# Altium footprint library GOSTAmplifier.PcbLib: 7 footprints
Each footprint in its own frame and in the unit in brackets; x right, y up, seen from the top. Pads: shape width x height; smd on the part's side, far side on the other; paste and mask are expansions set on the pad; w line width, h text height; cw(c..) or ccw(c..) is an arc to the next point about the centre after c.
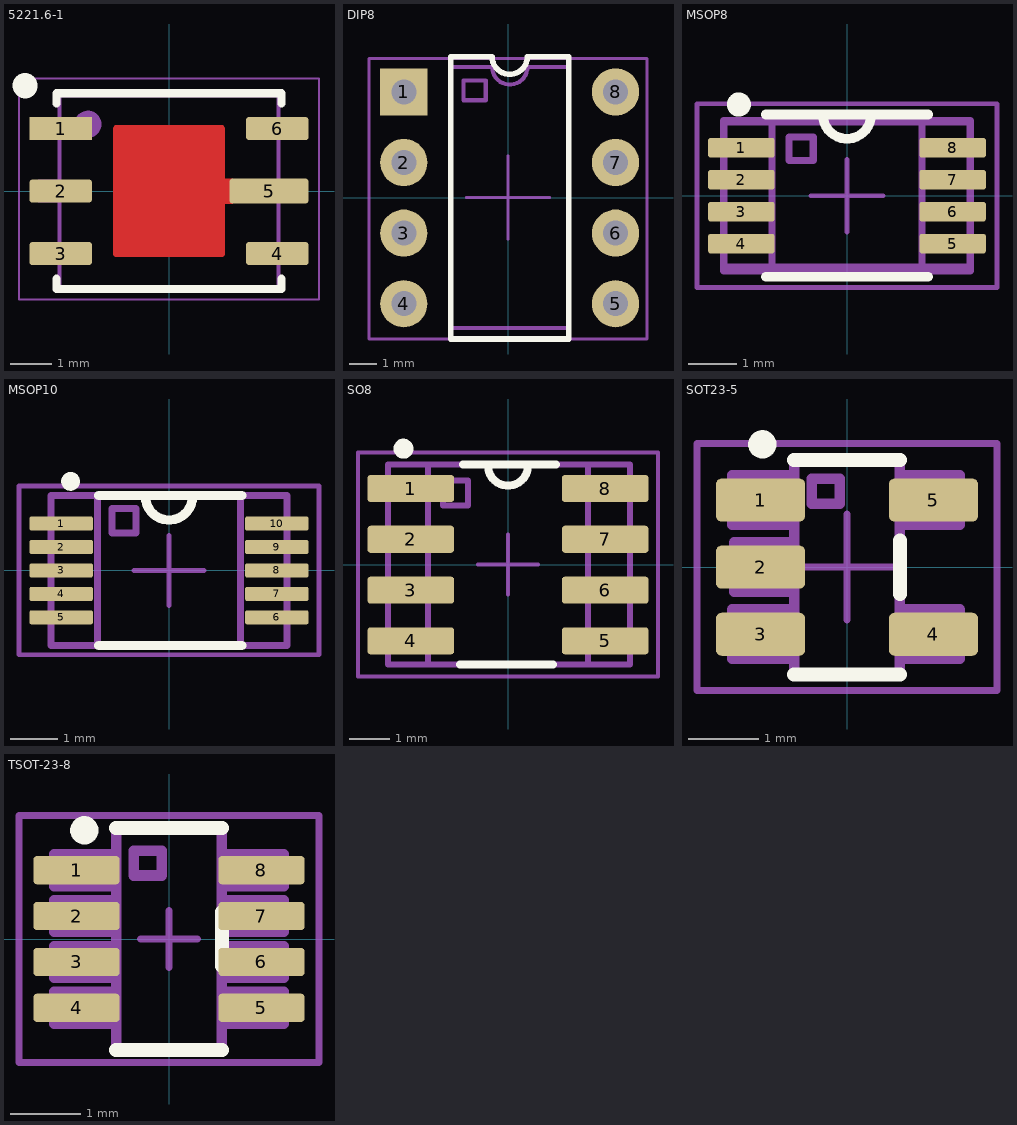
[diagram p0: the footprints below, top view; thin cyan lines are the x and y axes]

## 5221.6-1 [mm] "5221.6-1, 6-Leads, Body 4,6x5,25mm, Pitch 1,50mm, IPC Medium Density"
height 2
pads (6):
  rect 1.5x0.55 smd paste-0.025 mask+0.1: 1(-2.6,1.5)
  rrect25% 1.5x0.55 smd paste-0.025 mask+0.1: 2(-2.6,0) 3(-2.6,-1.5) 4(2.6,-1.5) 6(2.6,1.5)
  rrect25% 1.9x0.6 smd paste-0.025 mask+0.1: 5(2.4,0)
Top Layer:
  region: 1.525,0.3 1.525,-0.3 1.1,-0.3 1.1,0.3
  region: -1.275,1.575 1.275,1.575 1.288,1.575 1.312,1.565 1.33,1.547 1.34,1.523 1.34,1.51 1.34,-1.51 1.34,-1.523 1.33,-1.547 1.312,-1.565 1.288,-1.575 1.275,-1.575 -1.275,-1.575 -1.288,-1.575 -1.312,-1.565 -1.33,-1.547 -1.34,-1.523 -1.34,-1.51 -1.34,1.51 -1.34,1.523 -1.33,1.547 -1.312,1.565 -1.288,1.575
Top Overlay:
  lines w0.2: -2.7,-2.1 -2.7,-2.35 2.7,-2.35 2.7,-2.1 ; -2.7,2.1 -2.7,2.35 2.7,2.35 2.7,2.1
  lines w0.6: -3.45,2.525 -3.451,2.53
Top Paste:
  region: 1.25,1.475 0.15,1.475 0.15,0.125 1.25,0.125
  rectangle: -1.25,-1.475 -0.15,-0.125
  region: 1.25,-0.125 0.15,-0.125 0.15,-1.475 1.25,-1.475
  rectangle: -1.25,0.125 -0.15,1.475
  lines w0.05: -1.25,-1.475 -0.15,-1.475 -0.15,-0.125 -1.25,-0.125 -1.25,-1.475 ; -1.25,0.125 -0.15,0.125 -0.15,1.475 -1.25,1.475 -1.25,0.125 ; 0.15,-1.475 1.25,-1.475 1.25,-0.125 0.15,-0.125 0.15,-1.475 ; 0.15,0.125 1.25,0.125 1.25,1.475 0.15,1.475 0.15,0.125
Mechanical 6:
  text ".Comment" at -2.041,-0.55 h1.2
Mechanical 9:
  text ".Designator" at -1.275,0.55 h1.5
Mechanical 11:
  circle w0.35: c-1.947,1.603 r0.15
  lines w0.1: -2.625,-1.725 -3.125,-1.725 -3.125,-1.275 -2.625,-1.275 ; -2.625,-0.225 -3.125,-0.225 -3.125,0.225 -2.625,0.225 ; -2.625,1.275 -3.125,1.275 -3.125,1.725 -2.625,1.725 ; 2.625,-1.725 3.125,-1.725 3.125,-1.275 2.625,-1.275 ; 2.625,-0.225 3.125,-0.225 3.125,0.225 2.625,0.225 ; 2.625,1.275 3.125,1.275 3.125,1.725 2.625,1.725 ; -2.625,-2.3 2.625,-2.3 2.625,2.3 -2.625,2.3 -2.625,-2.3
Mechanical 15:
  lines w0.05: -3.6,-2.6 3.6,-2.6 3.6,2.7 -3.6,2.7 -3.6,-2.6
  lines w0.1: -0.5,0 0.5,0 ; 0,-0.5 0,0.5
3D body: height 0.2, standoff 0, extent -1.3,-1.55 1.3,1.55
3D body: height 0.3, standoff 0, extent 2.125,1.275 3.125,1.725
3D body: height 0.3, standoff 0, extent 1.287,-0.225 3.125,0.225
3D body: height 0.3, standoff 0, extent 2.125,-1.725 3.125,-1.275
3D body: height 0.3, standoff 0, extent -3.125,-1.725 -2.125,-1.275
3D body: height 0.3, standoff 0, extent -3.125,-0.225 -2.125,0.225
3D body: height 0.3, standoff 0, extent -3.125,1.275 -2.125,1.725
3D body "korpus_5221_6-1.stp": height 1.8, standoff 0, extent -3.125,-2.275 3.15,2.325

## DIP8 [mm]
pads (8):
  rect 1.7x1.7 hole 0.9: 1(-3.75,3.8)
  round 1.7 hole 0.9: 2(-3.75,1.26) 3(-3.75,-1.28) 4(-3.75,-3.82) 5(3.87,-3.82) 6(3.87,-1.28) 7(3.87,1.26) 8(3.87,3.8)
Top Overlay:
  lines w0.2: -2.065,-5.09 2.185,-5.09 2.185,5.07 0.695,5.07 cw(c0.06,5.07) -0.575,5.07 -2.065,5.07 -2.065,-5.09
Mechanical 7:
  lines w0.15: -2.065,-4.7 -2.065,4.7 -0.57,4.7 ccw(c0.065,4.7) 0.7,4.7 2.2,4.7 2.2,-4.7 -2.065,-4.7 ; -1.6,3.5 -1.6,4.212 -0.8,4.212 -0.8,3.5 -1.6,3.5
Mechanical 9:
  text ".Designator" at -5.1,6 h3
Mechanical 10:
  text ".Comment" at -3.1,-6.7 h2
Mechanical 15:
  lines w0.1: -1.5,0 1.5,0 ; 0,-1.5 0,1.5 ; -5,-5.09 -5,5 5,5 5,-5.09 -5,-5.09
3D body "User Library-DIP-8-1.step": height 4.36, standoff -3, extent -3.875,-4.71 3.995,4.69

## MSOP8 [mil]
pads (8):
  rrect25% 54x16 smd: 1(-86,39) 2(-86,13) 3(-86,-13) 4(-86,-39) 5(86,-39) 6(86,-13) 7(86,13) 8(86,39)
Top Overlay:
  circle w9.84: c-87.95,74.17 r4.92
  lines w7.87: -66,-66 66,-66 ; -66,66 66,66 ; -19.68,66 ccw(c0,66) 19.68,66
Mechanical 7:
  lines w5.91: -61,-61 61,-61 ; -61,-61 -61,61 ; -61,-61 61,-61 ; -61,-61 -100.37,-61 -100.37,61 -61,61 ; -61,61 -12,61 ; -61,61 -12,61 ; -12,61 12,61 ; -12,61 12,61 ; 12,61 61,61 ; 12,61 61,61 ; 61,-61 61,61 ; 61,-61 61,61 ; 61,-61 100.37,-61 100.37,61 61,61 ; -100,-58.11 100,-58.11 100,60 -100,60 -100,-58.11 ; -47.24,28.54 -47.24,47.74 -27.56,47.74 -27.56,28.54 -47.24,28.54
Mechanical 9:
  text ".Designator" at -173.23,114.17 h118.11
Mechanical 10:
  text ".Comment" at -122.05,-137.8 h78.74
Mechanical 15:
  lines w3.94: -29.53,0 29.53,0 ; 0,-29.53 0,29.53 ; -122.05,-74.8 -122.05,74.8 122.05,74.8 122.05,-74.8 -122.05,-74.8
3D body "User Library-uMAX8.STEP": height 37.4, standoff 0, extent -99.38,-58.1 97.5,60.01

## MSOP10 [mm]
height 0.9
pads (10):
  rrect25% 1.35x0.3 smd: 1(-2.3,1) 2(-2.3,0.5) 3(-2.3,0) 4(-2.3,-0.5) 5(-2.3,-1) 6(2.3,-1) 7(2.3,-0.5) 8(2.3,0) 9(2.3,0.5) 10(2.3,1)
Top Overlay:
  circle w0.2: c-2.1,1.9 r0.1
  lines w0.2: -1.5,-1.6 1.55,-1.6 ; -1.5,1.6 1.55,1.6 ; -0.5,1.575 ccw(c0,1.575) 0.5,1.575
Mechanical 9:
  text ".Designator" at -5.4,2.7 h3.5
Mechanical 10:
  text ".Comment" at -2.95,-3.4 h2
Mechanical 11:
  lines w0.15: -1.525,-1.6 -1.525,1.6 ; 1.525,-1.6 1.525,1.6 ; -2.515,-1.6 2.515,-1.6 2.515,1.6 -2.515,1.6 -2.515,-1.6 ; -1.213,0.8 -0.7,0.8 -0.7,1.325 -1.213,1.325 -1.213,0.8
Mechanical 15:
  lines w0.1: -0.75,0 0.75,0 ; 0,-0.75 0,0.75 ; -3.2,-1.8 3.2,-1.8 3.2,1.8 -3.2,1.8 -3.2,-1.8
3D body "User Library-MSOP10-1.step": height 1.09, standoff 0, extent -2.575,-1.6 2.575,1.6

## SO8 [mm]
height 1.75
pads (8):
  rrect25% 2.17x0.68 smd: 1(-2.43,1.905) 2(-2.43,0.635) 3(-2.43,-0.635) 4(-2.43,-1.905) 5(2.43,-1.905) 6(2.43,-0.635) 7(2.43,0.635) 8(2.43,1.905)
Top Overlay:
  circle w0.25: c-2.615,2.9 r0.125
  lines w0.2: -1.2,-2.5 1.125,-2.5 ; -1.125,2.5 1.2,2.5 ; -0.5,2.475 ccw(c0,2.475) 0.5,2.475
Mechanical 7:
  lines w0.15: -2,-2.5 -2,2.5 ; 2,-2.5 2,2.5 ; -3,-2.5 -3,2.5 3.05,2.5 3.05,-2.5 -3,-2.5 ; -1.625,1.475 -1,1.475 -1,2.1 -1.625,2.1 -1.625,1.475
Mechanical 9:
  text ".Designator" at -4.7,3.5 h3
Mechanical 10:
  text ".Comment" at -3.2,-4.2 h2
Mechanical 15:
  lines w0.1: -0.75,0 0.75,0 ; 0,-0.75 0,0.75 ; -3.75,-2.8 3.75,-2.8 3.75,2.8 -3.75,2.8 -3.75,-2.8
3D body "SOIC-8.STEP": height 1.7, standoff 0, extent -3,-2.54 3,2.54

## SOT23-5 [mm]
height 1.12
pads (5):
  rrect25% 1.26x0.61 smd: 1(-1.225,0.95) 2(-1.225,0) 3(-1.225,-0.95) 4(1.225,-0.95) 5(1.225,0.95)
Top Overlay:
  circle w0.2: c-1.2,1.74 r0.1
  lines w0.2: -0.75,-1.52 0.75,-1.52 ; -0.75,1.52 0.75,1.52 ; 0.75,-0.38 0.75,0.38
Mechanical 7:
  lines w0.15: -0.75,-1.3 -1.625,-1.3 -1.625,-0.6 -0.75,-0.6 ; -0.75,-0.35 -1.6,-0.35 -1.6,0.35 -0.75,0.35 ; -0.75,0.6 -1.625,0.6 -1.625,1.3 -0.75,1.3 ; 0.75,-1.3 1.6,-1.3 1.6,-0.6 0.75,-0.6 ; 0.75,0.6 1.6,0.6 1.6,1.3 0.75,1.3 ; -0.75,-1.52 0.75,-1.52 0.75,1.52 -0.75,1.52 -0.75,-1.52 ; -0.5,0.9 -0.1,0.9 -0.1,1.25 -0.5,1.25 -0.5,0.9
Mechanical 9:
  text ".Designator" at -4.4,2.5 h3
Mechanical 10:
  text ".Comment" at -3.2,-3.2 h2
Mechanical 15:
  lines w0.1: -0.75,0 0.75,0 ; 0,-0.75 0,0.75 ; -2.125,-1.75 -2.125,1.75 -2,1.75 2.125,1.75 2.125,-1.75 -2.125,-1.75
3D body "User Library-SOT23-5-3.STEP": height 1.45, standoff 0.01, extent -1.6,-1.555 1.6,1.545

## TSOT-23-8 [mm]
height 1.12
pads (8):
  rrect25% 1.22x0.4 smd: 1(-1.31,0.975) 2(-1.31,0.325) 3(-1.31,-0.325) 4(-1.31,-0.975) 5(1.31,-0.975) 6(1.31,-0.325) 7(1.31,0.325) 8(1.31,0.975)
Top Overlay:
  circle w0.2: c-1.2,1.54 r0.1
  lines w0.2: -0.75,-1.57 0.75,-1.57 ; -0.75,1.57 0.75,1.57 ; 0.75,-0.38 0.75,0.38
Mechanical 7:
  lines w0.15: -0.75,-1.2 -1.625,-1.2 -1.625,-0.75 -0.75,-0.75 ; -0.75,-0.55 -1.625,-0.55 -1.625,-0.1 -0.75,-0.1 ; -0.75,0.1 -1.625,0.1 -1.625,0.55 -0.75,0.55 ; -0.75,0.75 -1.625,0.75 -1.625,1.2 -0.75,1.2 ; 0.75,-1.2 1.625,-1.2 1.625,-0.75 0.75,-0.75 ; 0.75,-0.55 1.625,-0.55 1.625,-0.1 0.75,-0.1 ; 0.75,0.1 1.625,0.1 1.625,0.55 0.75,0.55 ; 0.75,0.75 1.625,0.75 1.625,1.2 0.75,1.2 ; -0.75,-1.57 -0.75,1.57 0.75,1.57 0.75,-1.57 -0.75,-1.57 ; -0.5,0.9 -0.5,1.25 -0.1,1.25 -0.1,0.9 -0.5,0.9
Mechanical 9:
  text ".Designator" at -4.4,2.5 h3
Mechanical 10:
  text ".Comment" at -3.2,-3.2 h2
Mechanical 15:
  lines w0.1: -0.4,0 0.4,0 ; 0,-0.4 0,0.4 ; -2.125,-1.75 2.125,-1.75 2.125,1.75 -2,1.75 -2.125,1.75 -2.125,-1.75
3D body "User Library-TSOT-23-8.STEP": height 1, standoff 0, extent -1.4,-1.45 1.4,1.45